# Altium footprint library rectifier.PCBLIB: 39 footprints (part 2 of 3)
Each footprint in its own frame and in the unit in brackets; x right, y up, seen from the top. Pads: shape width x height; smd on the part's side, far side on the other; paste and mask are expansions set on the pad; w line width, h text height; cw(c..) or ccw(c..) is an arc to the next point about the centre after c.
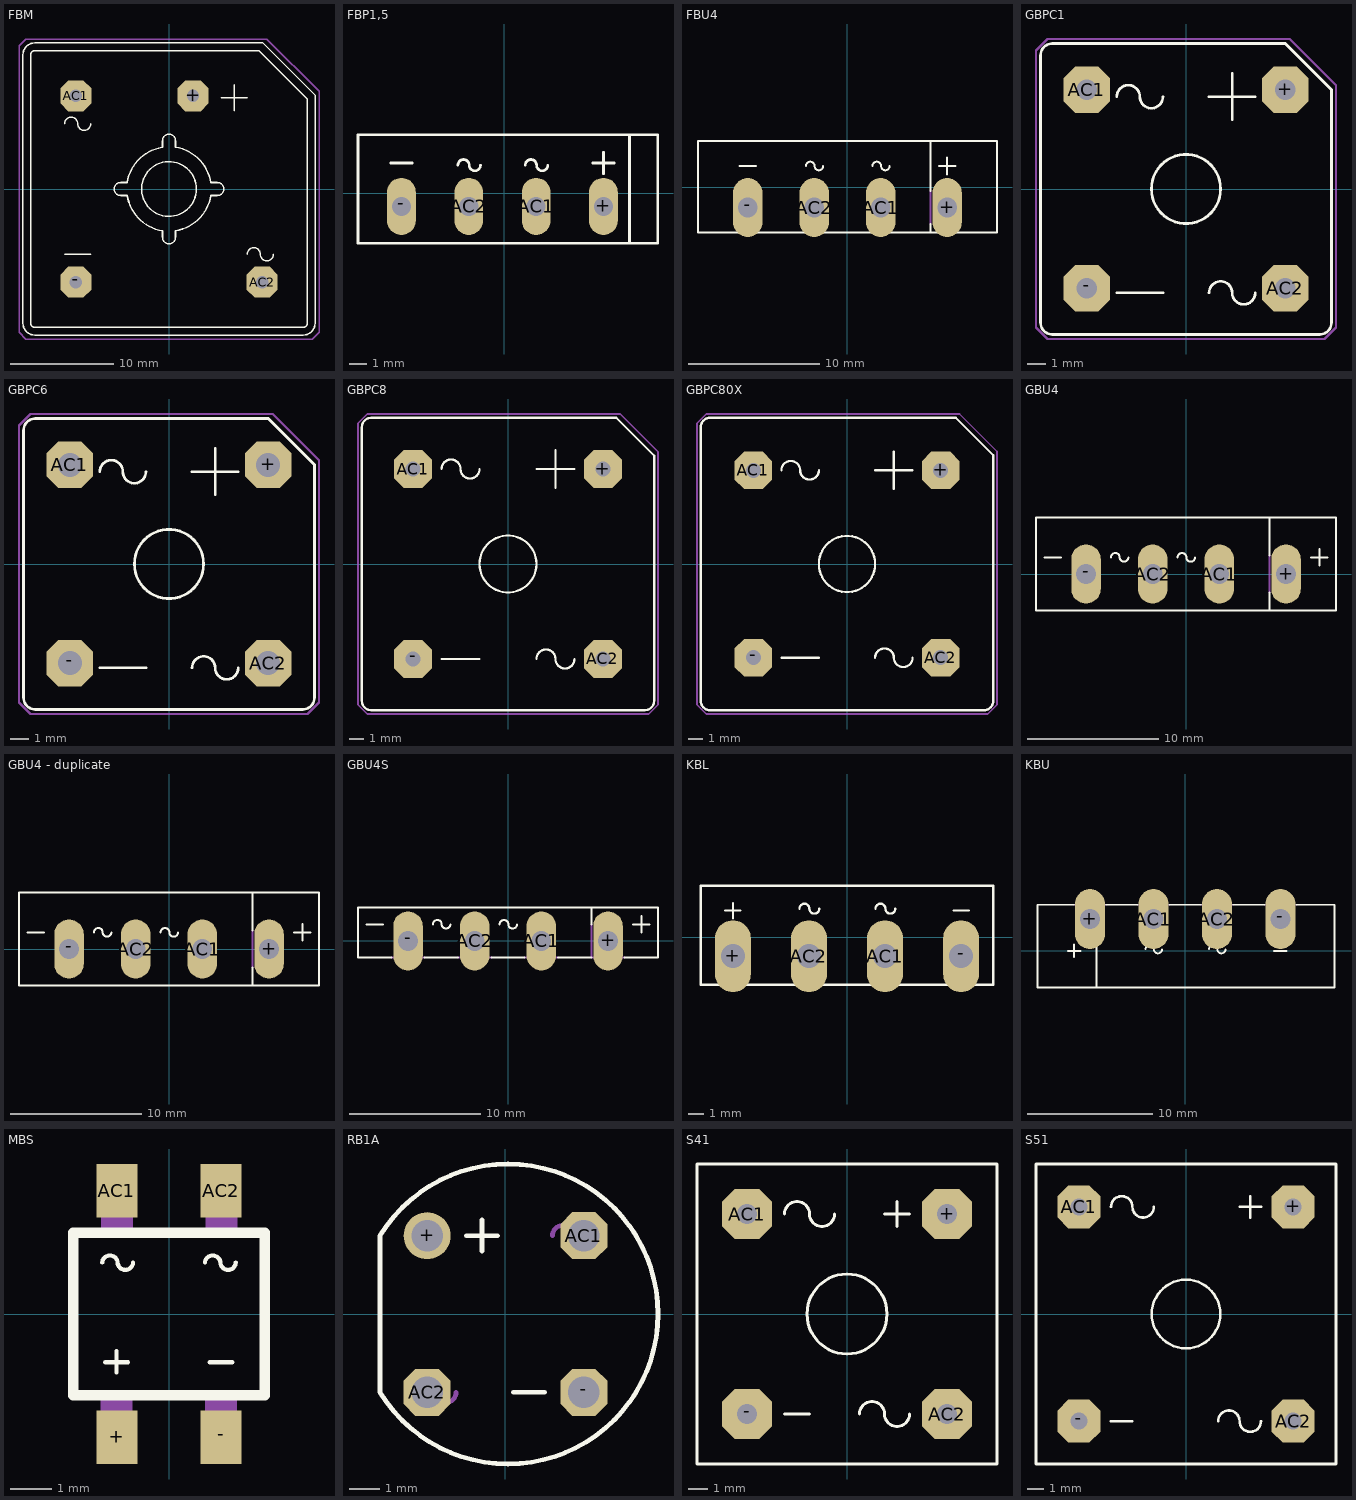
[diagram p1: the footprints below, top view; thin cyan lines are the x and y axes]

## FBM [mil]
pads (4):
  oct 118.11x118.11 hole 47: +(92,357) -(-357,-357) AC1(-357,357) AC2(357,-357)
Top Overlay:
  circle w6: c0,0 r105
  lines w6: -400,-250 -300,-250 ; -400,250 cw(c-375,250) -350,250 ccw(c-325,250) -300,250 ; -160,-25 -185,-25 cw(c-185,0) -185,25 -160,25 cw(c0,0) -26.62,159.74 ; -159.87,-25.79 ccw(c0,0) -25,-160 -25,-185 ccw(c0,-185) 25,-185 25,-160 ; -25,160 -25,185 cw(c0,185) 25,185 25,160 cw(c0,0) 160.19,23.73 ; 25.79,-159.87 ccw(c0,0) 160,-25 185,-25 ccw(c185,0) 185,25 160,25 ; 200,350 300,350 ; 250,300 250,400 ; 300,-250 cw(c325,-250) 350,-250 ccw(c375,-250) 400,-250 ; -560,-515 ccw(c-515,-515) -515,-560 515,-560 ccw(c515,-515) 560,-515 560,360 360,560 -515,560 ccw(c-515,515) -560,515 -560,-515 ; -530,-515 ccw(c-515,-515) -515,-530 515,-530 ccw(c515,-515) 530,-515 530,345 345,530 -515,530 ccw(c-515,515) -530,515 -530,-515
Via Holes:
  rectangle: -575,-575 575,575
Mechanical 27:
  lines w5: -575,-550 -550,-575 550,-575 575,-550 575,375 375,575 -550,575 -575,550 -575,-550

## FBP1,5 [mil]
pads (4):
  oval 66x132 hole 44: +(228.78,-30.32) -(-236.22,-30.32) AC1(73.78,-30.32) AC2(-81.22,-30.32)
Top Overlay:
  lines w6: -261.22,69.69 -211.22,69.69 ; -106.22,64.69 cw(c-93.22,64.69) -80.22,64.69 ccw(c-67.22,64.69) -54.22,64.69 ; 48.78,64.69 cw(c61.78,64.69) 74.78,64.69 ccw(c87.78,64.69) 100.78,64.69 ; 203.78,69.69 253.78,69.69 ; 228.78,44.69 228.78,94.69 ; 288.78,-115.32 353.78,-115.32 353.78,134.69 288.78,134.69 ; 288.78,-115.32 288.78,134.69 ; 288.78,-115.32 -336.22,-115.32 -336.22,134.69 288.78,134.69
Via Holes:
  rectangle: -334.65,-118.11 354.33,137.8

## FBU4 [mil]
pads (4):
  oval 88.5x177 hole 59: +(300,-60.63) -(-300,-60.63) AC1(100,-60.63) AC2(-100,-60.63)
Top Overlay:
  lines w6: -325,64.37 -275,64.37 ; -125,64.37 cw(c-112,64.37) -99,64.37 ccw(c-86,64.37) -73,64.37 ; 75,64.37 cw(c88,64.37) 101,64.37 ccw(c114,64.37) 127,64.37 ; 250,-110.63 250,-135.63 ; 250,-10.63 250,139.37 ; 275,64.37 325,64.37 ; 300,39.37 300,89.37 ; 250,-135.63 450,-135.63 450,139.37 250,139.37 ; 250,-135.63 -450,-135.63 -450,139.37 250,139.37
Mechanical 16:
  lines w6: 250,-110.63 250,-10.63
Via Holes:
  rectangle: -452.76,-137.8 433.07,137.8

## GBPC1 [mil]
pads (4):
  oct 100x100 hole 44: +(215,215) -(-215,-215) AC1(-215,215) AC2(215,-215)
Top Overlay:
  circle w6: c0,0 r75
  lines w6: -150,-225 -50,-225 ; -150,200 cw(c-125,200) -100,200 ccw(c-75,200) -50,200 ; 50,-225 cw(c75,-225) 100,-225 ccw(c125,-225) 150,-225 ; 50,200 150,200 ; 100,150 100,250 ; -315,-290 ccw(c-290,-290) -290,-315 290,-315 ccw(c290,-290) 315,-290 315,215 215,315 -290,315 ccw(c-290,290) -315,290 -315,-290
Via Holes:
  rectangle: -325,-325 325,325
Mechanical 27:
  lines w5: -325,-300 -300,-325 300,-325 325,-300 325,225 225,325 -300,325 -325,300 -325,-300

## GBPC6 [mil]
pads (4):
  oct 100x100 hole 52: +(215,215) -(-215,-215) AC1(-215,215) AC2(215,-215)
Top Overlay:
  circle w6: c0,0 r75
  lines w6: -150,-225 -50,-225 ; -150,200 cw(c-125,200) -100,200 ccw(c-75,200) -50,200 ; 50,-225 cw(c75,-225) 100,-225 ccw(c125,-225) 150,-225 ; 50,200 150,200 ; 100,150 100,250 ; -315,-290 ccw(c-290,-290) -290,-315 290,-315 ccw(c290,-290) 315,-290 315,215 215,315 -290,315 ccw(c-290,290) -315,290 -315,-290
Via Holes:
  rectangle: -325,-325 325,325
Mechanical 27:
  lines w5: -325,-300 -300,-325 300,-325 325,-300 325,225 225,325 -300,325 -325,300 -325,-300

## GBPC8 [mil]
pads (4):
  oct 100x100 hole 40: +(250,250) -(-250,-250) AC1(-250,250) AC2(250,-250)
Top Overlay:
  circle w6: c0,0 r75
  lines w6: -175,-250 -75,-250 ; -175,250 cw(c-150,250) -125,250 ccw(c-100,250) -75,250 ; 75,-250 cw(c100,-250) 125,-250 ccw(c150,-250) 175,-250 ; 75,250 175,250 ; 125,200 125,300 ; -385,-360 ccw(c-360,-360) -360,-385 360,-385 ccw(c360,-360) 385,-360 385,285 285,385 -360,385 ccw(c-360,360) -385,360 -385,-360
Mechanical 27:
  lines w5: -395,-370 -370,-395 370,-395 395,-370 395,295 295,395 -370,395 -395,370 -395,-370

## GBPC80X [mil]
pads (4):
  oct 100x100 hole 40: +(250,250) -(-250,-250) AC1(-250,250) AC2(250,-250)
Top Overlay:
  circle w6: c0,0 r75
  lines w6: -175,-250 -75,-250 ; -175,250 cw(c-150,250) -125,250 ccw(c-100,250) -75,250 ; 75,-250 cw(c100,-250) 125,-250 ccw(c150,-250) 175,-250 ; 75,250 175,250 ; 125,200 125,300 ; -390,-365 ccw(c-365,-365) -365,-390 365,-390 ccw(c365,-365) 390,-365 390,290 290,390 -365,390 ccw(c-365,365) -390,365 -390,-365
Mechanical 27:
  lines w5: -400,-375 -375,-400 375,-400 400,-375 400,300 300,400 -375,400 -400,375 -400,-375

## GBU4 [mil]
pads (4):
  oval 88.5x177 hole 59: +(300,0) -(-300,0) AC1(100,0) AC2(-100,0)
Top Overlay:
  lines w6: -425,50 -375,50 ; -225,50 cw(c-212,50) -199,50 ccw(c-186,50) -173,50 ; -25,50 cw(c-12,50) 1,50 ccw(c14,50) 27,50 ; 250,-55 250,-110 ; 250,55 250,170 ; 375,50 425,50 ; 400,25 400,75 ; 250,-110 450,-110 450,170 250,170 ; 250,-110 -450,-110 -450,170 250,170
Mechanical 16:
  lines w6: 250,-55 250,55

## GBU4 - duplicate [mil]
pads (4):
  oval 88.5x177 hole 59: +(300,0) -(-300,0) AC1(100,0) AC2(-100,0)
Top Overlay:
  lines w6: -425,50 -375,50 ; -225,50 cw(c-212,50) -199,50 ccw(c-186,50) -173,50 ; -25,50 cw(c-12,50) 1,50 ccw(c14,50) 27,50 ; 250,-55 250,-110 ; 250,55 250,170 ; 375,50 425,50 ; 400,25 400,75 ; 250,-110 450,-110 450,170 250,170 ; 250,-110 -450,-110 -450,170 250,170
Mechanical 16:
  lines w6: 250,-55 250,55

## GBU4S [mil]
pads (4):
  oval 88.5x177 hole 59: +(300,0) -(-300,0) AC1(100,0) AC2(-100,0)
Top Overlay:
  lines w6: -425,50 -375,50 ; -350,-50 -450,-50 -450,100 250,100 ; -250,-50 -150,-50 ; -225,50 cw(c-212,50) -199,50 ccw(c-186,50) -173,50 ; -50,-50 50,-50 ; -25,50 cw(c-12,50) 1,50 ccw(c14,50) 27,50 ; 150,-50 250,-50 ; 250,50 250,100 ; 350,-50 450,-50 450,100 250,100 ; 375,50 425,50 ; 400,25 400,75
Mechanical 16:
  lines w6: -350,-50 -250,-50 ; -150,-50 -50,-50 ; 50,-50 150,-50 ; 250,50 250,-50 350,-50

## KBL [mil]
pads (4):
  oval 94.5x189 hole 63: +(-300,-50) -(300,-50) AC1(100,-50) AC2(-100,-50)
Top Overlay:
  lines w6: -320,70 -280,70 ; -300,50 -300,90 ; -125,75 cw(c-112,75) -99,75 ccw(c-86,75) -73,75 ; 75,75 cw(c88,75) 101,75 ccw(c114,75) 127,75 ; 280,70 320,70 ; -385,-125 385,-125 385,135 -385,135 -385,-125

## KBU [mil]
pads (4):
  oval 94.5x189 hole 63: +(-300,100) -(300,100) AC1(-100,100) AC2(100,100)
Top Overlay:
  lines w6: -370,0 -330,0 ; -350,-20 -350,20 ; -350,145 -465,145 -465,-115 -280,-115 ; -280,30 -280,-115 ; -250,145 -150,145 ; -125,5 cw(c-112,5) -99,5 ccw(c-86,5) -73,5 ; -50,145 50,145 ; 75,5 cw(c88,5) 101,5 ccw(c114,5) 127,5 ; 150,145 250,145 ; 280,0 320,0 ; 350,145 470,145 470,-115 -280,-115
Mechanical 16:
  lines w6: -350,145 -280,145 ; -280,30 -280,145 ; -250,145 -280,145 ; -150,145 -50,145 ; 50,145 150,145 ; 250,145 350,145
Via Holes:
  rectangle: -470,-120 475,150

## MBS [mm]
pads (4):
  rect 1x1.3 smd: +(-1.27,-3) -(1.27,-3) AC1(-1.27,3) AC2(1.27,3)
Top Overlay:
  lines w0.102: -1.625,1.25 cw(c-1.438,1.237) -1.25,1.25 ccw(c-1.062,1.262) -0.875,1.25 ; -1.55,-1.175 -1,-1.175 ; -1.275,-1.425 -1.275,-0.9 ; 0.875,1.25 cw(c1.062,1.237) 1.25,1.25 ccw(c1.438,1.262) 1.625,1.25 ; 0.99,-1.175 1.54,-1.175
  lines w0.254: -2.325,-1.975 2.325,-1.975 2.325,1.975 -2.325,1.975 -2.325,-1.975
Mechanical 16:
  region: -0.875,3.505 -1.65,3.505 -1.65,2.075 -0.875,2.075
  region: 1.665,3.505 0.89,3.505 0.89,2.075 1.665,2.075
  rectangle: 0.875,-3.505 1.65,-2.075
  rectangle: -1.665,-3.505 -0.89,-2.075

## RB1A [mil]
pads (4):
  round 60 hole 40: +(-100,100)
  oct 60x60 hole 40: -(100,-100) AC1(100,100) AC2(-100,-100)
Top Overlay:
  lines w6: -50,100 -10,100 ; -30,80 -30,120 ; 10,-100 50,-100 ; -160,-100 ccw(c3.28,0) -160,100 -160,-100
Mechanical 16:
  lines w6: -115,-100 cw(c-102,-100) -89,-100 ccw(c-76,-100) -63,-100 ; 60,100 cw(c73,100) 86,100 ccw(c99,100) 112,100
Via Holes:
  rectangle: -175,-175 175,175

## S41 [mil]
pads (4):
  oct 100x100 hole 40: +(200,200) -(-200,-200) AC1(-200,200) AC2(200,-200)
Top Overlay:
  circle w6: c0,0 r80
  lines w6: -125,-200 -75,-200 ; -125,200 cw(c-100,200) -75,200 ccw(c-50,200) -25,200 ; 25,-200 cw(c50,-200) 75,-200 ccw(c100,-200) 125,-200 ; 75,200 125,200 ; 100,175 100,225 ; -300,-300 -300,300 300,300 300,-300 -300,-300
Via Holes:
  rectangle: -300,-300 300,300

## S51 [mil]
pads (4):
  oct 100x100 hole 40: +(250,250) -(-250,-250) AC1(-250,250) AC2(250,-250)
Top Overlay:
  circle w6: c0,0 r80
  lines w6: -175,-250 -125,-250 ; -175,250 cw(c-150,250) -125,250 ccw(c-100,250) -75,250 ; 75,-250 cw(c100,-250) 125,-250 ccw(c150,-250) 175,-250 ; 125,250 175,250 ; 150,225 150,275 ; -350,-350 -350,350 350,350 350,-350 -350,-350